# EAGLE library part CONN-RECEPT-2MM-VERT-AU-10POS (library samtec)
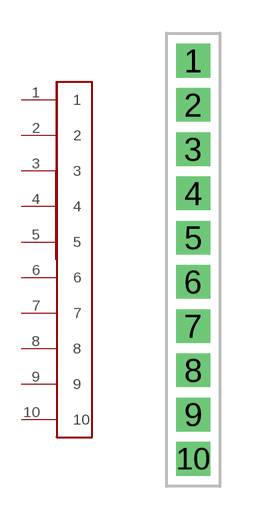
[diagram p2: symbol with the pads of 10-PIN-LILPWR; footprint 10-PIN-LILPWR]

Designator prefix -

## CONN-RECEPT-2MM-VERT-AU-10POS  [10-PIN-LILPWR]
1  1
2  2
3  3
4  4
5  5
6  6
7  7
8  8
9  9
10  10

## Footprint 10-PIN-LILPWR (pad centres in mm)
drill 1.016 square: 1 0,9; 2 0,7; 3 0,5; 4 0,3; 5 0,1; 6 0,-1; 7 0,-3; 8 0,-5; 9 0,-7; 10 0,-9